# EAGLE library part AGQ2 (library Panasonic Relay)
GQ - 2 Form C - Single side stable - PC board terminal Data sheet <https://www.panasonic-electric-works.com/eu/download.htm?id=55616> Parameters Max. switching voltage: 110V DC, 125V AC Max. switching current: 2A Operational function: Single side stable, 1 coil latching Contact arrangement: 2 CO Applications Telephone switchboard Telecommunication equipment Security equipment Test and measurement equipment Consumer electronic and audio visual equipment Options Also available as 1 coil latching version. Furthermore there are standard (AGQ200XX) or high sensitivity (AGQ260XX) single side stable versions.
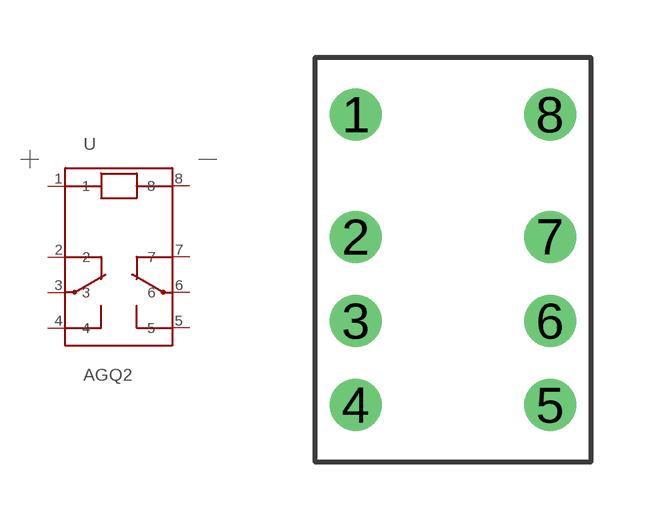
[diagram p43: symbol with the pads of GQ_SSS/1CLT_PCB; footprint GQ_SSS/1CLT_PCB]

Designator prefix -

## AGQ20003 (U_COIL: 3V DC), AGQ20006 (U_COIL: 6V DC), AGQ20009 (U_COIL: 9V DC), AGQ20012 (U_COIL: 12V DC), AGQ2001H (U_COIL: 1.5V DC), AGQ20024 (U_COIL: 24V DC), AGQ2004H (U_COIL: 4.5V DC), AGQ26003 (U_COIL: 3V DC), AGQ26006 (U_COIL: 6V DC), AGQ26009 (U_COIL: 9V DC), AGQ26012 (U_COIL: 12V DC), AGQ2601H (U_COIL: 1.5V DC), AGQ26024 (U_COIL: 24V DC), AGQ2604H (U_COIL: 4.5V DC)  [GQ_SSS/1CLT_PCB]
1  1
2  2
3  3
4  4
5  5
6  6
7  7
8  8

## Footprint GQ_SSS/1CLT_PCB (pad centres in mm)
drill 0.85: 1 -2.54,3.8; 2 -2.54,0.6; 3 -2.54,-1.6; 4 -2.54,-3.8; 5 2.54,-3.8; 6 2.54,-1.6; 7 2.54,0.6; 8 2.54,3.8